# Altium schematic symbol library MWSA0603S-XRXMT.SchLib: 1 symbol
Pins are listed as number, name and electrical type; pins without a type are passive.

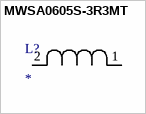
[diagram p0: symbol MWSA0605S-3R3MT]

## MWSA0605S-3R3MT
designator L?
3.3 µH Shielded Drum Core, Wirewound Inductor 8.5 A 22mOhm Max Nonstandard; Mfr_Name: Sunlord
footprint IND_MWSA0603S_SNL
pins: 1, 2